# EAGLE library part THD2528-11SD-GF (library Custom SDCards)
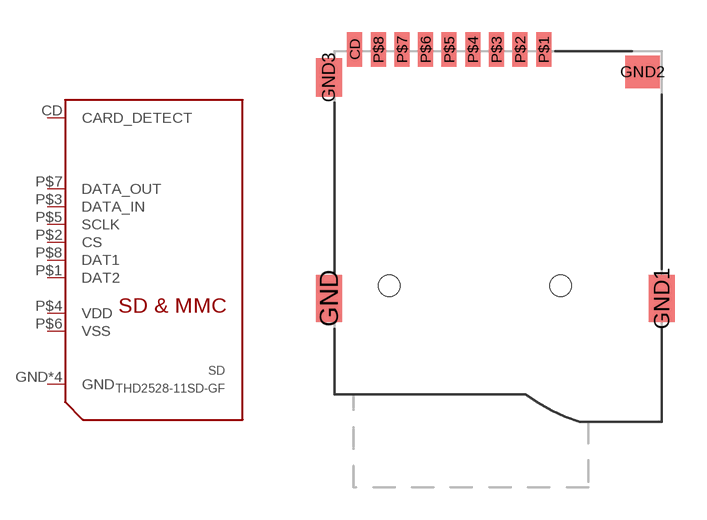
[diagram p1: symbol with the pads of THD-2528; footprint THD-2528]

Designator prefix SD

## THD2528-11SD-GF  [THD-2528]
CD  CARD_DETECT  pas
GND  GND  sup
GND1  GND  sup
GND2  GND  sup
GND3  GND  sup
P$1  DAT2
P$2  CS  in
P$3  DATA_IN  in
P$4  VDD  sup
P$5  SCLK  in
P$6  VSS  sup
P$7  DATA_OUT  out
P$8  DAT1

## Footprint THD-2528 (pad centres in mm)
smd 0.7 x 1.6: CD -1.6,11; P$1 7.2,11; P$2 6.1,11; P$3 5,11; P$4 3.9,11; P$5 2.8,11; P$6 1.7,11; P$7 0.6,11; P$8 -0.5,11
smd 1.2 x 2.2: GND -2.8,-0.6; GND1 12.7,-0.6
smd 1.6 x 1.5: GND2 11.8,9.95
smd 1.2 x 1.8: GND3 -2.8,9.7
hole 1 at 0,0
hole 1 at 8,0